# EAGLE library part MSP430F6779 (library MSP430F6779)
MSP430F6779
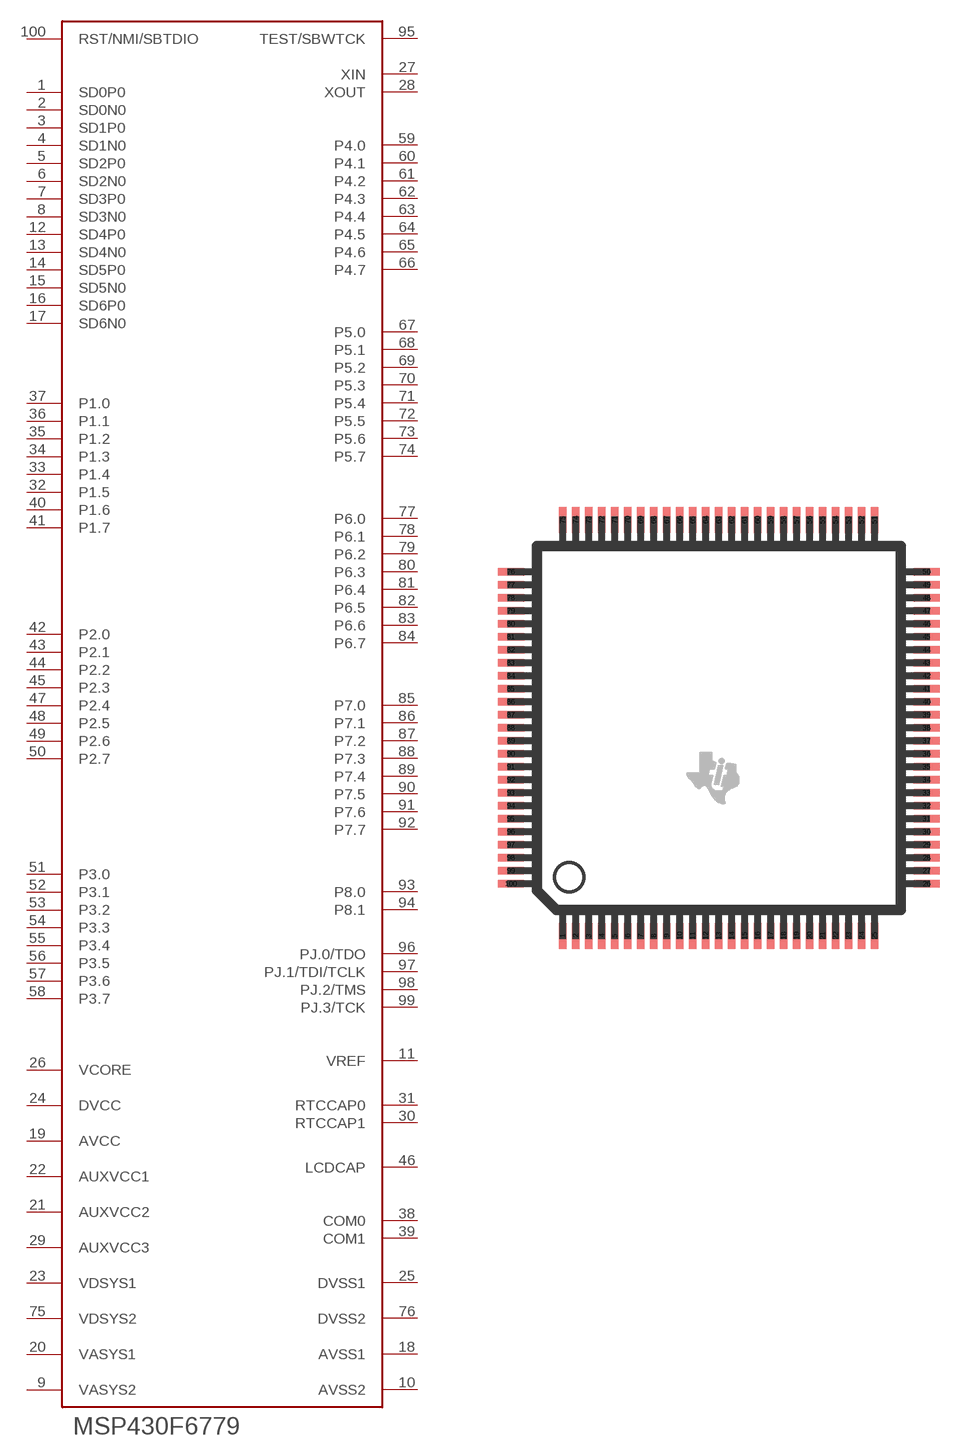
[diagram p0: symbol with the pads of S-PQFP-G100(PZ); footprint S-PQFP-G100(PZ)]

Designator prefix -

## MSP430F6779PZ  [S-PQFP-G100(PZ)]
1  SD0P0
2  SD0N0
3  SD1P0
4  SD1N0
5  SD2P0
6  SD2N0
7  SD3P0
8  SD3N0
9  VASYS2
10  AVSS2
11  VREF
12  SD4P0
13  SD4N0
14  SD5P0
15  SD5N0
16  SD6P0
17  SD6N0
18  AVSS1
19  AVCC
20  VASYS1
21  AUXVCC2
22  AUXVCC1
23  VDSYS1
24  DVCC
25  DVSS1
26  VCORE
27  XIN
28  XOUT
29  AUXVCC3
30  RTCCAP1
31  RTCCAP0
32  P1.5
33  P1.4
34  P1.3
35  P1.2
36  P1.1
37  P1.0
38  COM0
39  COM1
40  P1.6
41  P1.7
42  P2.0
43  P2.1
44  P2.2
45  P2.3
46  LCDCAP
47  P2.4
48  P2.5
49  P2.6
50  P2.7
51  P3.0
52  P3.1
53  P3.2
54  P3.3
55  P3.4
56  P3.5
57  P3.6
58  P3.7
59  P4.0
60  P4.1
61  P4.2
62  P4.3
63  P4.4
64  P4.5
65  P4.6
66  P4.7
67  P5.0
68  P5.1
69  P5.2
70  P5.3
71  P5.4
72  P5.5
73  P5.6
74  P5.7
75  VDSYS2
76  DVSS2
77  P6.0
78  P6.1
79  P6.2
80  P6.3
81  P6.4
82  P6.5
83  P6.6
84  P6.7
85  P7.0
86  P7.1
87  P7.2
88  P7.3
89  P7.4
90  P7.5
91  P7.6
92  P7.7
93  P8.0
94  P8.1
95  TEST/SBWTCK
96  PJ.0/TDO
97  PJ.1/TDI/TCLK
98  PJ.2/TMS
99  PJ.3/TCK
100  RST/NMI/SBTDIO

## Footprint S-PQFP-G100(PZ) (pad centres in mm)
smd 0.29 x 1: 1 -6,-8; 2 -5.5,-8; 3 -5,-8; 4 -4.5,-8; 5 -4,-8; 6 -3.5,-8; 7 -3,-8; 8 -2.5,-8; 9 -2,-8; 10 -1.5,-8; 11 -1,-8; 12 -0.5,-8; 13 0,-8; 14 0.5,-8; 15 1,-8; 16 1.5,-8; 17 2,-8; 18 2.5,-8; 19 3,-8; 20 3.5,-8; 21 4,-8; 22 4.5,-8; 23 5,-8; 24 5.5,-8; 25 6,-8; 51 6,8; 52 5.5,8; 53 5,8; 54 4.5,8; 55 4,8; 56 3.5,8; 57 3,8; 58 2.5,8; 59 2,8; 60 1.5,8; 61 1,8; 62 0.5,8; 63 0,8; 64 -0.5,8; 65 -1,8; 66 -1.5,8; 67 -2,8; 68 -2.5,8; 69 -3,8; 70 -3.5,8; 71 -4,8; 72 -4.5,8; 73 -5,8; 74 -5.5,8; 75 -6,8
smd 1 x 0.29: 26 8,-6; 27 8,-5.5; 28 8,-5; 29 8,-4.5; 30 8,-4; 31 8,-3.5; 32 8,-3; 33 8,-2.5; 34 8,-2; 35 8,-1.5; 36 8,-1; 37 8,-0.5; 38 8,0; 39 8,0.5; 40 8,1; 41 8,1.5; 42 8,2; 43 8,2.5; 44 8,3; 45 8,3.5; 46 8,4; 47 8,4.5; 48 8,5; 49 8,5.5; 50 8,6; 76 -8,6; 77 -8,5.5; 78 -8,5; 79 -8,4.5; 80 -8,4; 81 -8,3.5; 82 -8,3; 83 -8,2.5; 84 -8,2; 85 -8,1.5; 86 -8,1; 87 -8,0.5; 88 -8,0; 89 -8,-0.5; 90 -8,-1; 91 -8,-1.5; 92 -8,-2; 93 -8,-2.5; 94 -8,-3; 95 -8,-3.5; 96 -8,-4; 97 -8,-4.5; 98 -8,-5; 99 -8,-5.5; 100 -8,-6